# Altium schematic symbol library TPS22997RYZR.SchLib: 1 symbol
Pins are listed as number, name and electrical type; pins without a type are passive.

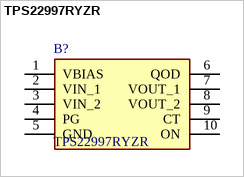
[diagram p0: symbol TPS22997RYZR]

## TPS22997RYZR
designator B?
TPS22997 5.5-V, 10-A, 4-m On-Resistance Load Switch with Adjustable Rise Time; Manufacturer_Name: Texas Instruments; Geometry.Height: 0.8mm; Manufacturer_Part_Number: TPS22997RYZR; Mouser Part Number: 595-TPS22997RYZR; Mouser Price/Stock: https://www.mouser.co.uk/ProductDetail/Texas-Instruments/TPS22997RYZR?qs=amGC7iS6iy986RqKkXLlig%3D%3D; Arrow Part Number: TPS22997RYZR; Arrow Price/Stock: https://www.arrow.com/en/products/tps22997ryzr/texas-instruments?utm_currency=USD&region=nac; Datasheet Link: https://www.ti.com/lit/gpn/tps22997?HQS=ti-null-null-sf-df-pf-sep-wwe&DCM=yes?hkey=EF798316E3902B6ED9A73243A3159BB0
footprint TPS22997RYZR
pins: 1 VBIAS, 2 VIN_1, 3 VIN_2, 4 PG, 5 GND, 6 QOD, 7 VOUT_1, 8 VOUT_2, 9 CT, 10 ON